# Altium integrated library OC09600.IntLib: 1 symbol
Pins are listed as number, name and electrical type; pins without a type are passive.

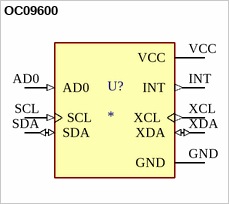
[diagram p0: symbol OC09600]

## OC09600
designator U?
GY-521 6 DOF MPU-6050 Module 3 Axis Accelerometer Gyroscope Module for Arduino; MF: YKS; MP: OC09600; SnapEDA_Link: https://www.snapeda.com/parts/OC09600/YKS/view-part/?ref=snap; Package: None; Value: *; Check_prices: https://www.snapeda.com/parts/OC09600/YKS/view-part/?ref=eda
footprint MODULE_OC09600
pins: AD0 (in), GND (power), INT (out), SCL (in), SDA (io), VCC (power), XCL (out), XDA (io)